# Altium footprint library 8100Choke.PcbLib: 1 footprints
Each footprint in its own frame and in the unit in brackets; x right, y up, seen from the top. Pads: shape width x height; smd on the part's side, far side on the other; paste and mask are expansions set on the pad; w line width, h text height; cw(c..) or ccw(c..) is an arc to the next point about the centre after c.
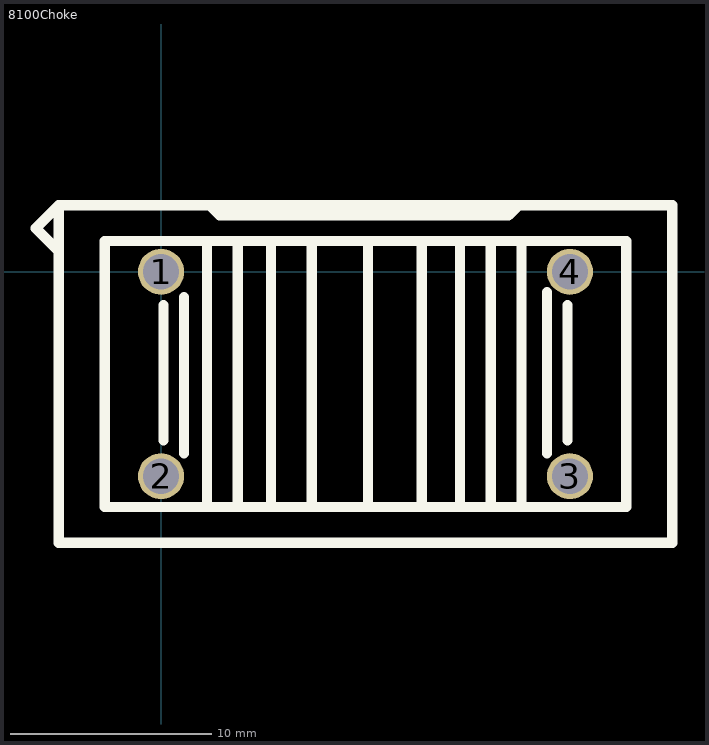
[diagram p0: the footprint, top view; thin cyan lines are the x and y axes]

## 8100Choke [mil]
pads (4):
  round 90 hole 70: 1(0,0) 2(0,-400) 3(800,-400) 4(800,0)
Top Overlay:
  lines w20: -200,40 -245,85 -200,130 ; 5,-330 5,-65 ; 45,-355 45,-50 ; 90,-460 90,60 ; 90,130 95,130 115,110 680,110 700,130 ; 150,-460 150,60 ; 215,-460 215,60 ; 295,-460 295,60 ; 405,-460 405,60 ; 510,-460 510,60 ; 585,-460 585,60 ; 645,-460 645,60 ; 705,-460 705,60 ; 755,-355 755,-40 ; 795,-330 795,-65 ; -200,130 -200,-530 1000,-530 1000,130 -200,130 ; -110,-460 910,-460 910,60 -110,60 -110,-460